# Altium footprint library RLC.PcbLib: 151 footprints (part 9 of 10)
Each footprint in its own frame and in the unit in brackets; x right, y up, seen from the top. Pads: shape width x height; smd on the part's side, far side on the other; paste and mask are expansions set on the pad; w line width, h text height; cw(c..) or ccw(c..) is an arc to the next point about the centre after c.
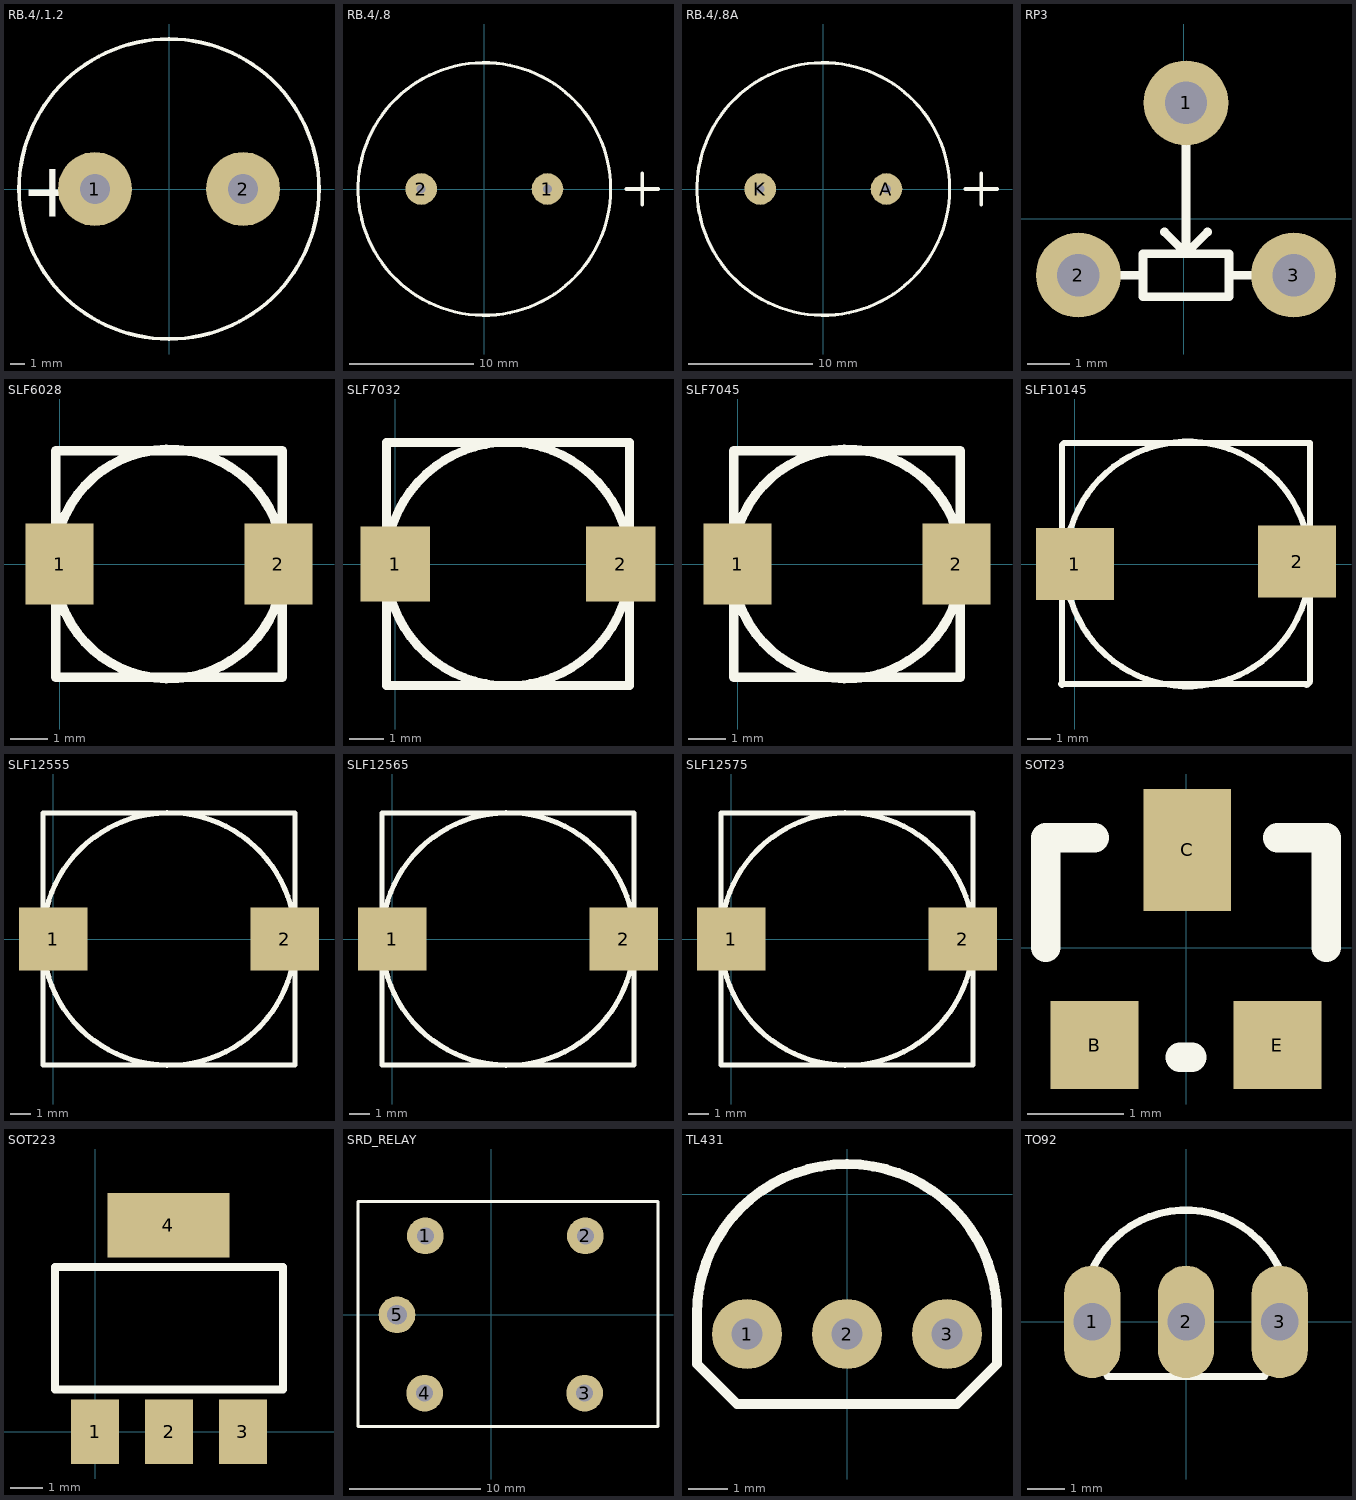
[diagram p8: the footprints below, top view; thin cyan lines are the x and y axes]

## RB.4/.1.2 [mil]
pads (2):
  round 200 hole 80: 1(-200,0) 2(200,0)
Top Overlay:
  circle w10: c0,0 r405.25
  text "+" at -400,-75 h150

## RB.4/.8 [mil]
pads (2):
  round 100 hole 28: 1(200,0) 2(-200,0)
Top Overlay:
  circle w10: c0,0 r400
  lines w12: 450,0 550,0 ; 500,-50 500,50

## RB.4/.8A [mil]
pads (2):
  round 100 hole 28: A(200,0) K(-200,0)
Top Overlay:
  circle w10: c0,0 r400
  lines w12: 450,0 550,0 ; 500,-50 500,50

## RP3 [mm]
pads (3):
  round 2 hole 1: 1(0.052,2.739) 2(-2.488,-1.325) 3(2.592,-1.325)
Top Overlay:
  lines w0.203: -2.488,-1.325 -0.964,-1.325 ; -0.456,-0.309 0.052,-0.817 ; 0.052,2.739 0.052,-0.817 ; 0.56,-0.309 0.052,-0.817 ; 1.068,-1.325 2.592,-1.325 ; -0.964,-1.325 -0.964,-1.833 1.068,-1.833 1.068,-0.817 -0.964,-0.817 -0.964,-1.325

## SLF6028 [mm]
pads (2):
  rect 1.8x2.15 smd: 1(0,0) 2(5.8,0)
Top Overlay:
  circle w0.254: c2.9,0 r3.041
  lines w0.254: -0.1,-3 5.9,-3 5.9,3 -0.1,3 -0.1,-3

## SLF7032 [mm]
pads (2):
  rect 2x2.15 smd: 1(0,0) 2(6.5,0)
Top Overlay:
  circle w0.254: c3.25,0 r3.509
  lines w0.254: -0.25,-3.5 -0.25,3.5 6.75,3.5 6.75,-3.5 -0.25,-3.5

## SLF7045 [mm]
pads (2):
  rect 1.8x2.15 smd: 1(0,0) 2(5.8,0)
Top Overlay:
  circle w0.254: c2.9,0 r3.041
  lines w0.254: -0.1,-3 -0.1,3 5.9,3 5.9,-3 -0.1,-3

## SLF10145 [mil]
pads (2):
  rect 130x120 smd: 1(0,0) 2(370.08,3.94)
Top Overlay:
  circle w10: c188.04,0 r204.01
  lines w10: -22.96,-200 385.04,-200 ; -21.96,-202 -21.96,0 ; -21.96,-12 -21.96,198 -17.96,202 392.04,202 392.04,-196 ; 392.04,-196 386.04,-202 392.04,-196

## SLF12555 [mm]
pads (2):
  rect 3.4x3.15 smd: 1(0,0) 2(11.5,0)
Top Overlay:
  circle w0.254: c5.75,0 r6.27
  lines w0.254: -0.5,-6.25 12,-6.25 12,6.25 -0.5,6.25 -0.5,-6.25

## SLF12565 [mm]
pads (2):
  rect 3.4x3.15 smd: 1(0,0) 2(11.5,0)
Top Overlay:
  circle w0.254: c5.75,0 r6.27
  lines w0.254: -0.5,-6.25 -0.5,6.25 12,6.25 12,-6.25 -0.5,-6.25

## SLF12575 [mm]
pads (2):
  rect 3.4x3.15 smd: 1(0,0) 2(11.5,0)
Top Overlay:
  circle w0.254: c5.75,0 r6.27
  lines w0.254: -0.5,-6.25 -0.5,6.25 12,6.25 12,-6.25 -0.5,-6.25

## SOT23 [mil]
pads (3):
  rect 36x36 smd: B(-37.5,-40) E(37.5,-40)
  rect 36x50 smd: C(0.5,40)
Top Overlay:
  lines w12: -57.5,0 -57.5,45 -37.5,45 ; -2.5,-45 2.5,-45 ; 37.5,45 57.5,45 57.5,0

## SOT223 [mil]
pads (4):
  rect 59x79 smd: 1(0,0) 2(90.55,0) 3(181.1,0)
  rect 150x79 smd: 4(89.88,253.54)
Top Overlay:
  lines w10: -49.45,52 -49.45,202 230.55,202 230.55,52 -49.45,52

## SRD_RELAY [mm]
pads (5):
  round 2.8 hole 1.3: 1(-5.016,5.994) 2(7.175,5.994) 3(7.125,-5.994) 4(-5.067,-5.994)
  round 2.8 hole 1.5: 5(-7.175,-0.025)
Top Overlay:
  lines w0.254: -10.147,-8.534 12.713,-8.534 12.713,8.611 -10.147,8.611 -10.147,-8.534

## TL431 [mil]
pads (3):
  round 70 hole 31.5: 1(-100,-140) 2(0,-140) 3(100,-140)
Top Overlay:
  lines w10: -150,-170 -150,-120 cw(c0,-120) 150,-120 150,-170 110,-210 -110,-210 -150,-170

## TO92 [mil]
pads (3):
  oval 60x120 hole 40: 1(-100,0) 2(0,0) 3(100,0)
Top Overlay:
  lines w7.87: -102.76,49.85 cw(c0,8.33) 102.76,49.85 ; -89.08,-49.71 -83.33,-58.33 83.33,-58.33 89.08,-49.71